# Altium footprint library resistor-power.PCBLIB: 89 footprints (part 1 of 6)
Each footprint in its own frame and in the unit in brackets; x right, y up, seen from the top. Pads: shape width x height; smd on the part's side, far side on the other; paste and mask are expansions set on the pad; w line width, h text height; cw(c..) or ccw(c..) is an arc to the next point about the centre after c.
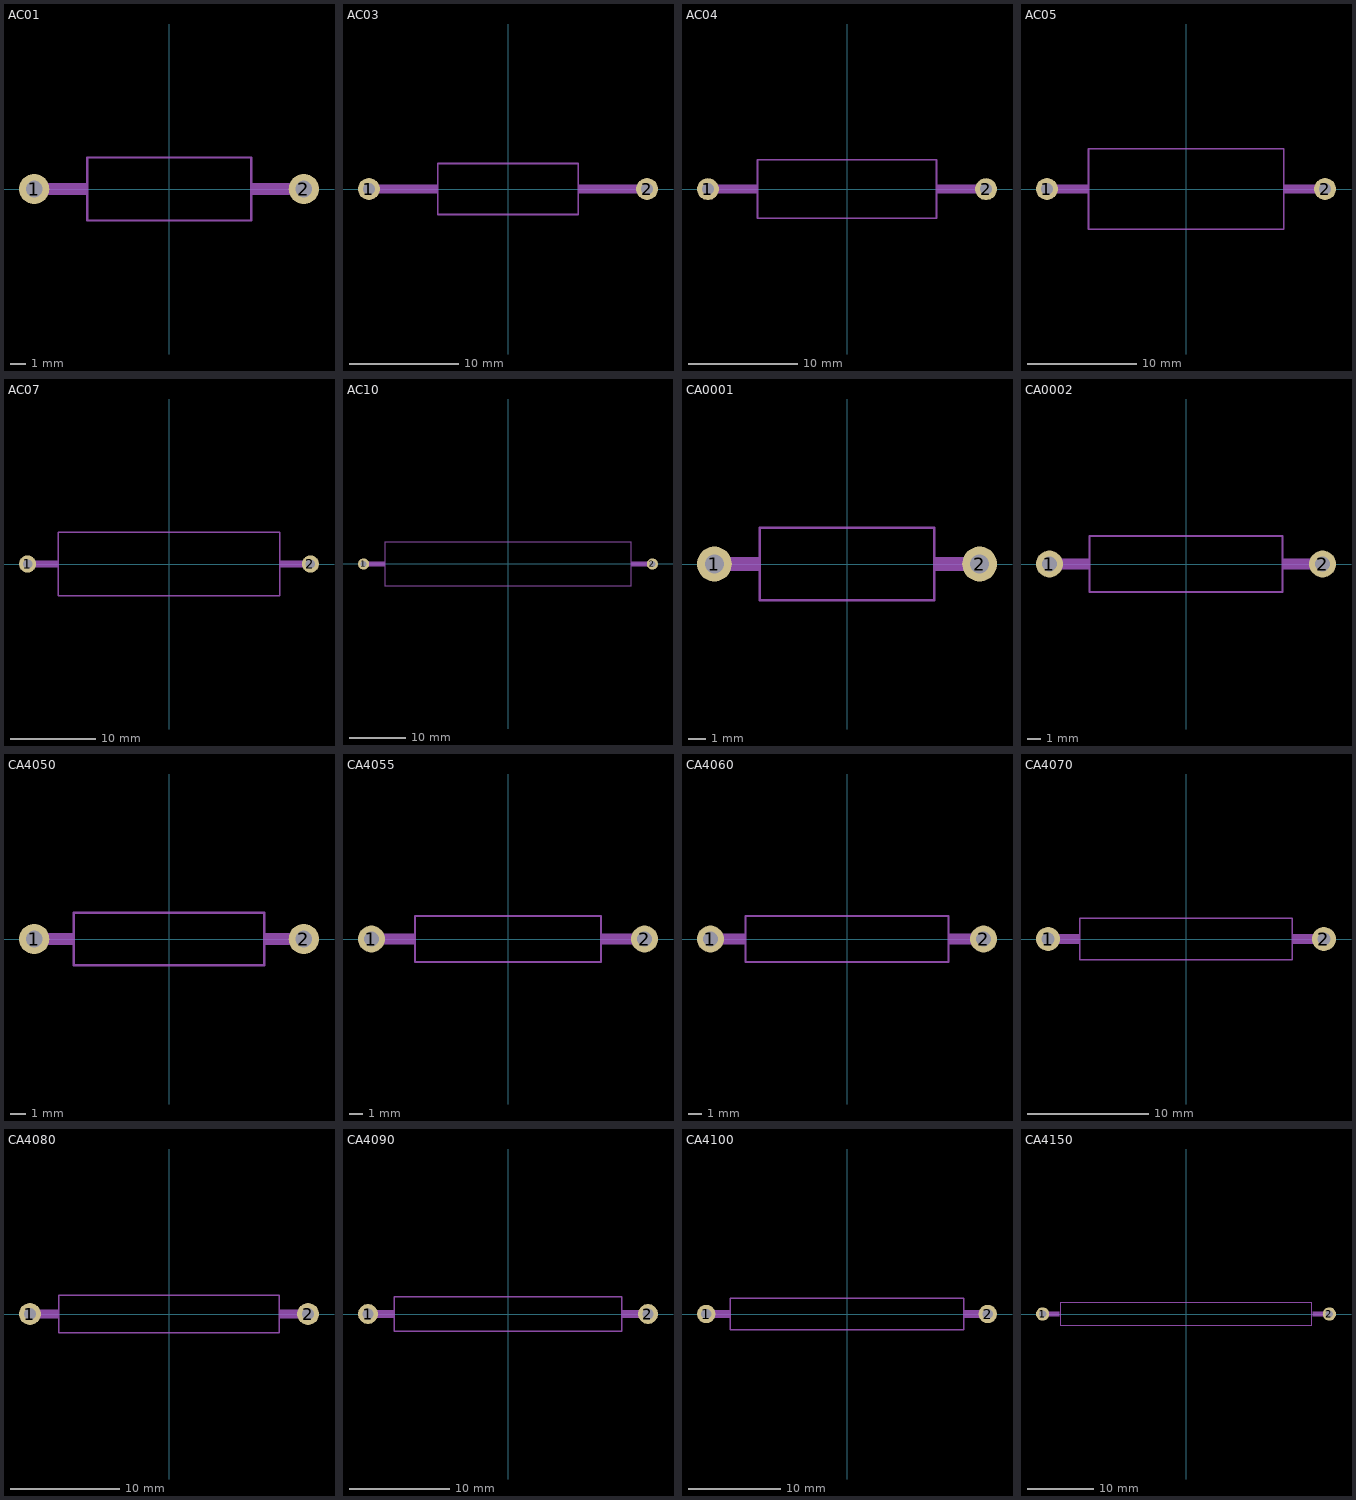
[diagram p0: the footprints below, top view; thin cyan lines are the x and y axes]

## AC01 [mm]
pads (2):
  round 2 hole 1.1: 1(-8.9,0) 2(8.9,0)
Mechanical 2:
  rectangle: -7.62,-0.406 -5.48,0.406
  rectangle: 5.505,-0.406 7.62,0.406
  lines w0.152: -5.405,-2.075 5.43,-2.075 5.43,2.075 -5.405,2.075 -5.405,-2.075
Mechanical 18:
  lines w0.813: -8.9,0 -7.62,0 ; 7.62,0 8.9,0

## AC03 [mm]
pads (2):
  round 2 hole 1.1: 1(-12.7,0) 2(12.7,0)
Mechanical 2:
  rectangle: -7.62,-0.406 -6.48,0.406
  rectangle: 6.505,-0.406 7.62,0.406
  lines w0.152: -6.405,-2.325 6.43,-2.325 6.43,2.325 -6.405,2.325 -6.405,-2.325
Mechanical 18:
  lines w0.813: -12.7,0 -7.33,0 ; 7.355,0 12.7,0

## AC04 [mm]
pads (2):
  round 2 hole 1.1: 1(-12.7,0) 2(12.7,0)
Mechanical 2:
  rectangle: -10.16,-0.406 -8.255,0.406
  rectangle: 8.255,-0.406 10.16,0.406
  lines w0.152: -8.18,-2.65 8.18,-2.65 8.18,2.675 -8.18,2.675 -8.18,-2.65
Mechanical 18:
  lines w0.813: -12.7,0 -9.105,0 ; 9.105,0 12.7,0

## AC05 [mm]
pads (2):
  round 2 hole 1.1: 1(-12.7,0) 2(12.7,0)
Mechanical 2:
  rectangle: -10.885,-0.406 -8.98,0.406
  rectangle: 9.005,-0.406 10.91,0.406
  lines w0.152: -8.905,-3.675 8.93,-3.675 8.93,3.675 -8.905,3.675 -8.905,-3.675
Mechanical 18:
  lines w0.813: -12.7,0 -10.16,0 ; 10.16,0 12.7,0

## AC07 [mm]
pads (2):
  round 2 hole 1.1: 1(-16.5,0) 2(16.5,0)
Mechanical 2:
  rectangle: -14.885,-0.406 -12.98,0.406
  rectangle: 13.005,-0.406 14.91,0.406
  lines w0.152: -12.905,-3.675 12.93,-3.675 12.93,3.675 -12.905,3.675 -12.905,-3.675
Mechanical 18:
  lines w0.813: -16.5,0 -14.16,0 ; 14.16,0 16.5,0

## AC10 [mm]
pads (2):
  round 2 hole 1.1: 1(-25.725,0) 2(25.7,0)
Mechanical 2:
  rectangle: -23.91,-0.406 -22.005,0.406
  rectangle: 22.005,-0.406 23.91,0.406
  lines w0.152: -21.93,-3.9 21.93,-3.9 21.93,3.9 -21.93,3.9 -21.93,-3.9
Mechanical 18:
  lines w0.813: -25.725,0 -23.185,0 ; 23.16,0 25.7,0

## CA0001 [mm]
pads (2):
  round 2 hole 1.1: 1(-7.62,0) 2(7.62,0)
Mechanical 2:
  rectangle: -5.93,-0.406 -5.08,0.406
  rectangle: 5.08,-0.406 5.93,0.406
  lines w0.152: -5.005,-2.075 5.005,-2.075 5.005,2.075 -5.005,2.075 -5.005,-2.075
Mechanical 18:
  lines w0.813: -7.62,0 -5.93,0 ; 5.93,0 7.62,0

## CA0002 [mm]
pads (2):
  round 2 hole 1.1: 1(-10.16,0) 2(10.16,0)
Mechanical 2:
  rectangle: -8.89,-0.406 -7.24,0.406
  rectangle: 7.24,-0.406 8.89,0.406
  lines w0.152: -7.18,-2.075 7.18,-2.075 7.18,2.075 -7.18,2.075 -7.18,-2.075
Mechanical 18:
  lines w0.813: -10.16,0 -8.89,0 ; 8.89,0 10.16,0

## CA4050 [mm]
pads (2):
  round 2 hole 1.1: 1(-8.89,0) 2(8.89,0)
Mechanical 2:
  rectangle: -7.62,-0.406 -6.35,0.406
  rectangle: 6.35,-0.406 7.62,0.406
  lines w0.152: -6.28,-1.725 6.28,-1.725 6.28,1.725 -6.28,1.725 -6.28,-1.725
Mechanical 18:
  lines w0.813: -8.89,0 -7.62,0 ; 7.62,0 8.89,0

## CA4055 [mm]
pads (2):
  round 2 hole 1.1: 1(-10.16,0) 2(10.16,0)
Mechanical 2:
  rectangle: -8.89,-0.406 -6.985,0.406
  rectangle: 6.985,-0.406 8.89,0.406
  lines w0.152: -6.905,-1.7 6.905,-1.7 6.905,1.7 -6.905,1.7 -6.905,-1.7
Mechanical 18:
  lines w0.813: -10.16,0 -8.89,0 ; 8.89,0 10.16,0

## CA4060 [mm]
pads (2):
  round 2 hole 1.1: 1(-10.16,0) 2(10.16,0)
Mechanical 2:
  rectangle: -8.89,-0.406 -7.62,0.406
  rectangle: 7.62,-0.406 8.89,0.406
  lines w0.152: -7.555,-1.725 7.555,-1.725 7.555,1.725 -7.555,1.725 -7.555,-1.725
Mechanical 18:
  lines w0.813: -10.16,0 -8.89,0 ; 8.89,0 10.16,0

## CA4070 [mm]
pads (2):
  round 2 hole 1.1: 1(-11.43,0) 2(11.43,0)
Mechanical 2:
  rectangle: -10.14,-0.406 -8.87,0.406
  rectangle: 8.87,-0.406 10.14,0.406
  lines w0.152: -8.805,-1.725 8.805,-1.725 8.805,1.725 -8.805,1.725 -8.805,-1.725
Mechanical 18:
  lines w0.813: -11.43,0 -10.14,0 ; 10.14,0 11.43,0

## CA4080 [mm]
pads (2):
  round 2 hole 1.1: 1(-12.7,0) 2(12.7,0)
Mechanical 2:
  rectangle: -11.41,-0.406 -10.14,0.406
  rectangle: 10.14,-0.406 11.41,0.406
  lines w0.152: -10.075,-1.725 10.075,-1.725 10.075,1.725 -10.075,1.725 -10.075,-1.725
Mechanical 18:
  lines w0.813: -12.7,0 -11.41,0 ; 11.41,0 12.7,0

## CA4090 [mm]
pads (2):
  round 2 hole 1.1: 1(-13.97,0) 2(13.97,0)
Mechanical 2:
  rectangle: -12.68,-0.406 -11.41,0.406
  rectangle: 11.41,-0.406 12.68,0.406
  lines w0.152: -11.345,-1.725 11.345,-1.725 11.345,1.725 -11.345,1.725 -11.345,-1.725
Mechanical 18:
  lines w0.813: -13.97,0 -12.68,0 ; 12.68,0 13.97,0

## CA4100 [mm]
pads (2):
  round 2 hole 1.1: 1(-15.24,0) 2(15.24,0)
Mechanical 2:
  rectangle: -13.95,-0.406 -12.68,0.406
  rectangle: 12.68,-0.406 13.95,0.406
  lines w0.152: -12.615,-1.725 12.615,-1.725 12.615,1.725 -12.615,1.725 -12.615,-1.725
Mechanical 18:
  lines w0.813: -15.24,0 -13.95,0 ; 13.95,0 15.24,0

## CA4150 [mm]
pads (2):
  round 2 hole 1.1: 1(-21.59,0) 2(21.59,0)
Mechanical 2:
  rectangle: -20.3,-0.406 -19.03,0.406
  rectangle: 19.03,-0.406 20.3,0.406
  lines w0.152: -18.965,-1.725 18.965,-1.725 18.965,1.725 -18.965,1.725 -18.965,-1.725
Mechanical 18:
  lines w0.813: -21.59,0 -20.3,0 ; 20.3,0 21.59,0